# Altium footprint library VESC_BMS.PcbLib: 78 footprints (part 4 of 5)
Each footprint in its own frame and in the unit in brackets; x right, y up, seen from the top. Pads: shape width x height; smd on the part's side, far side on the other; paste and mask are expansions set on the pad; w line width, h text height; cw(c..) or ccw(c..) is an arc to the next point about the centre after c.
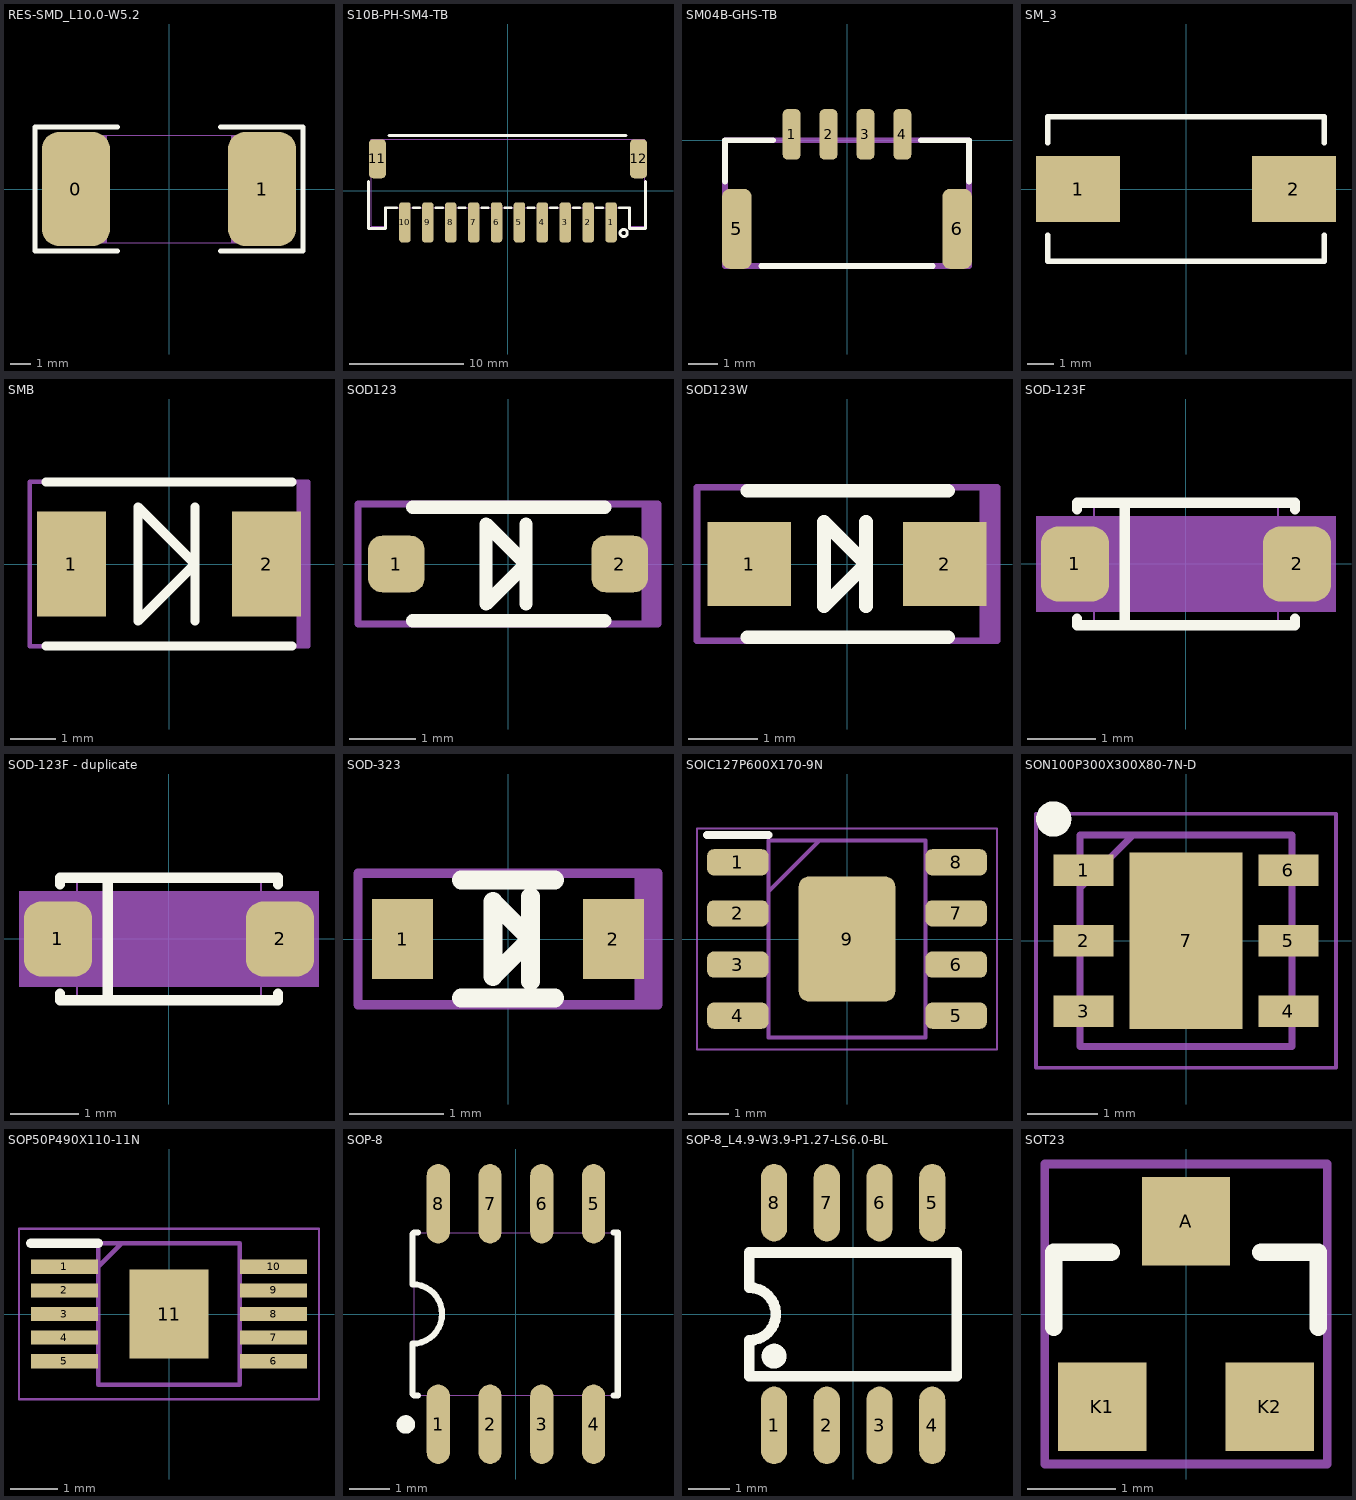
[diagram p3: the footprints below, top view; thin cyan lines are the x and y axes]

## RES-SMD_L10.0-W5.2 [mm]
pads (2):
  rrect50% 3.3x5.5 smd: 0(-4.5,0) 1(4.5,0)
Top Overlay:
  lines w0.254: -2.5,-3 -6.477,-3 -6.477,3 -2.5,3 ; 2.5,-3 6.477,-3 6.477,3 2.5,3
Mechanical 13:
  region: 3,2.6 5,2.6 5,-2.6 3,-2.6
  region: -5,2.6 -3,2.6 -3,-2.6 -5,-2.6
  region: -4.94,-2.6 -4.941,-2.576 -4.976,-2.542 -5.024,-2.542 -5.059,-2.576 -5.06,-2.6 -5.059,-2.624 -5.024,-2.658 -4.976,-2.658 -4.941,-2.624 -4.94,-2.6
  lines w0.051: -5,-2.6 5,-2.6 5,2.6 -5,2.6 -5,-2.6
3D body "RES-SMD_L10.0-W5.2.step": height 1, standoff 0, extent -5,-2.55 5,2.55

## S10B-PH-SM4-TB [mm]
pads (12):
  rrect50% 1x3.5 smd: 1(9,-2.775) 2(6.998,-2.773) 3(4.998,-2.773) 4(2.998,-2.773) 5(0.998,-2.773) 6(-1.002,-2.773) 7(-3.002,-2.773) 8(-5.002,-2.773) 9(-7.002,-2.773) 10(-9.002,-2.773)
  rrect50% 1.5x3.4 smd: 11(-11.4,2.775) 12(11.4,2.775)
Top Overlay:
  circle w0.254: c10.1,-3.7 r0.316
  lines w0.254: -12.2,0.8 -12.2,-3.3 -10.7,-3.3 -10.7,-1.5 -9.733,-1.5 ; -10.4,4.8 10.3,4.8 ; -8.271,-1.5 -7.733,-1.5 ; -6.271,-1.5 -5.733,-1.5 ; -4.271,-1.5 -3.733,-1.5 ; -2.271,-1.5 -1.733,-1.5 ; -0.271,-1.5 0.267,-1.5 ; 1.729,-1.5 2.267,-1.5 ; 3.729,-1.5 4.267,-1.5 ; 5.729,-1.5 6.267,-1.5 ; 7.729,-1.5 8.269,-1.5 ; 9.731,-1.5 10.6,-1.5 10.6,-3.1 10.6,-3.3 12,-3.3 12,0.8
Mechanical 13:
  region: -11.6,4.475 -11.2,4.475 -11.2,1.475 -11.6,1.475
  region: -9.252,-1.125 -8.752,-1.125 -8.752,-4.125 -9.252,-4.125
  region: -7.252,-1.125 -6.752,-1.125 -6.752,-4.125 -7.252,-4.125
  region: -5.252,-1.125 -4.752,-1.125 -4.752,-4.125 -5.252,-4.125
  region: -3.252,-1.125 -2.752,-1.125 -2.752,-4.125 -3.252,-4.125
  region: -1.252,-1.125 -0.752,-1.125 -0.752,-4.125 -1.252,-4.125
  region: 0.748,-1.125 1.248,-1.125 1.248,-4.125 0.748,-4.125
  region: 2.748,-1.125 3.248,-1.125 3.248,-4.125 2.748,-4.125
  region: 4.748,-1.125 5.248,-1.125 5.248,-4.125 4.748,-4.125
  region: 6.748,-1.125 7.248,-1.125 7.248,-4.125 6.748,-4.125
  region: 8.75,-1.125 9.25,-1.125 9.25,-4.125 8.75,-4.125
  region: 11.2,4.475 11.6,4.475 11.6,1.475 11.2,1.475
  lines w0.051: -11.95,-3.125 -11.95,4.475 11.95,4.475 11.95,-3.125 10.6,-3.125 10.6,-1.5 -10.6,-1.5 -10.6,-3.125 -11.95,-3.125
3D body "CONN-SMD_S10B-PH-SM4.step": height 5.55, standoff 0, extent -12,-4.28 12,4.23

## SM04B-GHS-TB [mm]
pads (6):
  rrect50% 0.6x1.7 smd: 1(-1.875,0.2) 2(-0.625,0.2) 3(0.625,0.2) 4(1.875,0.2)
  rrect50% 1x2.7 smd: 5(-3.725,-3) 6(3.725,-3)
Top Overlay:
  lines w0.2: -4.125,-1.4 -4.125,0 -2.5,0 ; -2.9,-4.25 2.9,-4.25 ; 2.5,0 4.125,0 4.125,-1.4
Mechanical 13:
  lines w0.2: -4.125,-4.25 -4.125,0 4.125,0 4.125,-4.25 -4.125,-4.25
3D body "SM04B-GHS-TB_LF__SN_.stp": height 4.45, standoff 0, extent -4.12,-4.125 4.13,0.725

## SM_3 [mm]
height 1.1
pads (2):
  rect 3.2x2.5 smd: 1(-4.1,0) 2(4.1,0)
Top Overlay:
  lines w0.2: -5.25,-1.75 -5.25,-2.75 5.25,-2.75 5.25,-1.75 ; -5.25,1.75 -5.25,2.75 5.25,2.75 5.25,1.75
3D body: height 5.05, standoff 5, extent -0.25,-0.35 0.24,0.34
3D body: height 5, standoff 0, extent -5.25,-2.75 5.25,2.75
3D body: height 2.5, standoff 0, extent 5,-0.64 5.4,0.64
3D body: height 2.5, standoff 0, extent -5.4,-0.64 -5,0.64

## SMB [mm]
pads (2):
  rect 1.52x2.3 smd: 1(-2.14,0) 2(2.14,0)
Top Overlay:
  lines w0.2: -2.7,-1.8 2.7,-1.8 ; -2.7,1.8 2.7,1.8 ; 0.57,-1.25 0.57,1.25 ; -0.68,-1.25 0.57,0 -0.68,1.25 -0.68,-1.25
Mechanical 29:
  lines w0.1: 2.85,1.8 2.85,-1.8 2.95,-1.8 2.95,1.8 ; -3.05,-1.8 3.05,-1.8 3.05,1.8 -3.05,1.8 -3.05,-1.8
  text ".designator" at -2.9,-0.55 h1.3
3D body "User Library-DO-214AA SMB.step": height 2.3, standoff 0, extent -2.7,-1.8 2.7,1.8

## SOD123 [mm]
pads (2):
  rrect50% 0.85x0.85 smd: 1(-1.675,0) 2(1.675,0)
Top Overlay:
  lines w0.2: -1.43,-0.85 1.45,-0.85 ; -1.43,0.85 1.45,0.85 ; 0.27,-0.6 0.27,0.6 ; -0.33,-0.6 -0.33,0.6 0.27,0 -0.33,-0.6
Mechanical 29:
  lines w0.1: 2.05,0.9 2.05,-0.9 2.15,-0.9 2.15,0.9 ; -2.25,-0.9 2.25,-0.9 2.25,0.9 -2.25,0.9 -2.25,0.05 -2.25,-0.9
  text ".designator" at -2.1,-0.65 h1.3
3D body "User Library-SOD123-1.step": height 1.18, standoff 0, extent -1.95,-0.9 1.95,0.9

## SOD123W [mm]
pads (2):
  rect 1.2x1.2 smd: 1(-1.4,0) 2(1.4,0)
Top Overlay:
  lines w0.2: -1.43,-1.05 1.45,-1.05 ; -1.43,1.05 1.45,1.05 ; 0.27,-0.6 0.27,0.6 ; -0.33,-0.6 0.27,0 -0.33,0.6 -0.33,-0.6
Mechanical 29:
  lines w0.1: -2.15,0 -2.15,1.1 2.15,1.1 2.15,-1.1 -2.15,-1.1 -2.15,0.05 ; 1.95,1.1 1.95,-1.1 2.05,-1.1 2.05,1.1
  text ".designator" at -2,-0.65 h1.3
3D body "User Library-SOD123-1.step": height 1.18, standoff 0, extent -1.95,-0.9 1.95,0.9

## SOD-123F [mm] "SOD-123F"
pads (2):
  rrect50% 1.001x1.1 smd: 1(-1.628,0) 2(1.628,0)
Top Overlay:
  lines w0.15: -1.6,-0.8 -1.6,-0.899 1.6,-0.899 1.6,-0.8 ; -1.6,0.8 -1.6,0.899 1.6,0.899 1.6,0.8 ; -0.899,-0.8 -0.899,0.8
Mechanical 1:
  lines w0.025: -1.349,-0.899 -1.349,0.899 1.349,0.899 1.349,-0.899 -1.349,-0.899
Mechanical 15:
  region: -2.2,-0.701 2.2,-0.701 2.2,0.701 -2.2,0.701
3D body "DSK310.stp": height 1.19, standoff 0, extent -1.85,-0.9 1.85,0.9

## SOD-123F - duplicate [mm] "SOD-123F"
pads (2):
  rrect50% 1.001x1.1 smd: 1(-1.628,0) 2(1.628,0)
Top Overlay:
  lines w0.15: -1.6,-0.8 -1.6,-0.899 1.6,-0.899 1.6,-0.8 ; -1.6,0.8 -1.6,0.899 1.6,0.899 1.6,0.8 ; -0.899,-0.8 -0.899,0.8
Mechanical 13:
  lines w0.025: -1.349,-0.899 -1.349,0.899 1.349,0.899 1.349,-0.899 -1.349,-0.899
Mechanical 15:
  region: -2.2,-0.701 2.2,-0.701 2.2,0.701 -2.2,0.701
3D body "DSK310.stp": height 1.19, standoff 0, extent -1.85,-0.9 1.85,0.9

## SOD-323 [mm]
pads (2):
  rect 0.65x0.85 smd: 1(-1.125,0) 2(1.125,0)
Top Overlay:
  lines w0.2: -0.5,-0.63 0.5,-0.63 ; -0.5,0.63 0.5,0.63 ; 0.24,-0.45 0.24,0.45 ; -0.16,-0.4 0.24,0 -0.16,0.4 -0.16,-0.4
Mechanical 29:
  lines w0.1: 1.4,0.7 1.4,-0.7 1.5,-0.7 1.5,0.7 ; -1.6,-0.7 1.6,-0.7 1.6,0.7 -1.6,0.7 -1.6,0.05 -1.6,-0.7
  text ".designator" at -1.5,-0.55 h1
3D body "User Library-SOD-323.step": height 1.1, standoff 0, extent -1.3,-0.675 1.3,0.675

## SOIC127P600X170-9N [mm]
pads (9):
  rrect50% 1.525x0.65 smd: 1(-2.712,1.905) 2(-2.712,0.635) 3(-2.712,-0.635) 4(-2.712,-1.905) 5(2.712,-1.905) 6(2.712,-0.635) 7(2.712,0.635) 8(2.712,1.905)
  rrect20% 2.4x3.1 smd: 9(0,0)
Top Overlay:
  lines w0.2: -3.475,2.58 -1.95,2.58
Mechanical 13:
  lines w0.1: -1.95,1.18 -0.68,2.45 ; -1.95,-2.45 -1.95,2.45 1.95,2.45 1.95,-2.45 -1.95,-2.45
Mechanical 15:
  lines w0.05: -3.725,-2.75 -3.725,2.75 3.725,2.75 3.725,-2.75 -3.725,-2.75
3D body "LM5164DDAR.stp": height 1.57, standoff 0, extent -3,-2.45 3,2.45

## SON100P300X300X80-7N-D [mm]
pads (7):
  rect 0.85x0.45 smd: 1(-1.45,1) 2(-1.45,0) 3(-1.45,-1) 4(1.45,-1) 5(1.45,0) 6(1.45,1)
  rect 1.6x2.5 smd: 7(0,0)
Top Overlay:
  circle w0.25: c-1.875,1.725 r0.125
Mechanical 13:
  lines w0.1: -1.5,0.75 -0.75,1.5 ; -1.5,-1.5 1.5,-1.5 1.5,1.5 -1.5,1.5 -1.5,-1.5
Mechanical 15:
  lines w0.05: -2.125,-1.8 2.125,-1.8 2.125,1.8 -2.125,1.8 -2.125,-1.8
3D body "HDC1080DMBR.stp": height 0.8, standoff 0, extent -1.55,-1.5 1.55,1.5

## SOP50P490X110-11N [mm]
pads (11):
  rect 1.425x0.3 smd: 1(-2.212,1) 2(-2.212,0.5) 3(-2.212,0) 4(-2.212,-0.5) 5(-2.212,-1) 6(2.212,-1) 7(2.212,-0.5) 8(2.212,0) 9(2.212,0.5) 10(2.212,1)
  rect 1.68x1.88 smd: 11(0,0)
Top Overlay:
  lines w0.2: -2.925,1.5 -1.5,1.5
Mechanical 13:
  lines w0.1: -1.5,1 -1,1.5 ; -1.5,-1.5 1.5,-1.5 1.5,1.5 -1.5,1.5 -1.5,-1.5
Mechanical 15:
  lines w0.05: -3.175,-1.801 3.175,-1.801 3.175,1.801 -3.175,1.801 -3.175,-1.801
3D body "LTC7001EMSE#PBF.stp": height 1.1, standoff 0, extent -2.45,-1.5 2.45,1.5

## SOP-8 [mil] "SOP-8"
pads (8):
  oval 22.4x76.81 smd: 1(-75,-106.5) 2(-25,-106.5) 3(25,-106.5) 4(75,-106.5) 5(75,106.5) 6(25,106.5) 7(-25,106.5) 8(-75,106.5)
Top Overlay:
  circle w10: c-106.37,-106.72 r3.94
  lines w5.9: -94.5,-78.7 -98.4,-78.7 -100,-77.2 -100,-28.7 ccw(c-100,0) -71.3,0 ccw(c-100,0) -100,28.7 -100,77.2 -98.4,78.7 -94.5,78.7 ; 94.5,-78.7 98.4,-78.7 98.4,78.7 94.5,78.7
Mechanical 1:
  lines w1: -98.4,-78.7 98.4,-78.7 98.4,78.7 -98.4,78.7 -98.4,-78.7
3D body "NE555DR.stp": height 68.9, standoff 0, extent -96.46,-118.11 96.46,118.11

## SOP-8_L4.9-W3.9-P1.27-LS6.0-BL [mm]
pads (8):
  oval 0.63x1.865 smd: 1(-1.905,-2.682) 2(-0.635,-2.682) 3(0.635,-2.682) 4(1.905,-2.682) 5(1.905,2.682) 6(0.635,2.682) 7(-0.635,2.682) 8(-1.905,2.682)
Top Overlay:
  circle w0.3: c-1.905,-1.016 r0.15
  lines w0.254: -2.5,-1.498 -2.5,-0.635 ccw(c-2.5,0) -2.499,0.635 -2.499,1.482 2.5,1.482 2.5,-1.498 -2.5,-1.498
3D body "9z2C-U2-ESOP-8_L4.9-W3.9-P1.27-LS6.0-BL-EP-1.step": height 1.5, standoff 0, extent -2.45,-3 2.45,3

## SOT23 [mm]
height 1.1
pads (3):
  rect 1x1 smd: A(0,1.05) K1(-0.95,-1.05) K2(0.95,-1.05)
Top Overlay:
  lines w0.2: -1.5,-0.15 -1.5,0.7 -0.85,0.7 ; 0.85,0.7 1.5,0.7 1.5,-0.15
Mechanical 29:
  lines w0.1: -1.6,-1.7 -1.6,1.7 1.6,1.7 1.6,-1.7 -1.6,-1.7
  text ".designator" at -1.5,-0.35 h1
3D body "User Library-SOT23-2.step": height 1.08, standoff 0, extent -1.5,-1.29 1.5,1.35